# Altium schematic symbol library PultRE_8C.SchLib: 12 symbols
Pins are listed as number, name and electrical type; pins without a type are passive.

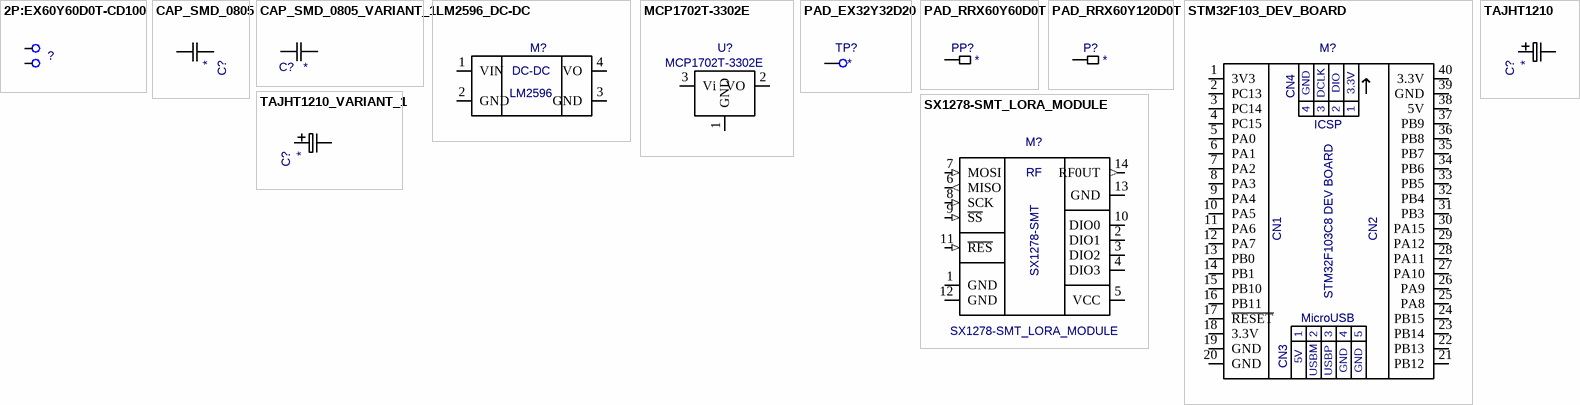
[diagram p0: symbols 2P:EX60Y60D0T-CD100 to TAJHT1210_VARIANT_1]

## 2P:EX60Y60D0T-CD100
designator ?  (value not drawn)
Value: *
footprint 2P:EX60Y60D0T-CD100
pins: 1, 2

## CAP_SMD_0805
designator C?  (value not drawn)
Value: *
footprint C0805
pins: 1 A, 2 B

## CAP_SMD_0805_VARIANT_1
designator C?, comment CAP_SMD_0805  (value not drawn)
CAP_SMD_0805_VARIANT_1; Value: *
footprint C0805
pins: 1 A, 2 B

## LM2596_DC-DC
designator M?  (value not drawn)
Value: *
footprint LM2596_DC-DC
pins: 1 VIN, 2 GND, 3 GND, 4 VO
text: DC-DC; LM2596

## MCP1702T-3302E
designator U?
Value: *
footprint SOT23A
pins: 1 GND, 2 VO, 3 Vi

## PAD_EX32Y32D20
designator TP?  (value not drawn)
Value: *
footprint PAD_EX32Y32AD20
pins: 1

## PAD_RRX60Y60D0T
designator PP?  (value not drawn)
Value: *
footprint PAD_RRX60Y60D0T
pins: 1

## PAD_RRX60Y120D0T
designator P?  (value not drawn)
Value: *
footprint PAD_RRX60Y120D0T
pins: 1

## STM32F103_DEV_BOARD
designator M?  (value not drawn)
Value: *
footprint STM32F103C8_DEV_BOARD
pins: 1 3V3, 2 PC13, 3 PC14, 4 PC15, 5 PA0, 6 PA1, 7 PA2, 8 PA3, 9 PA4, 10 PA5, 11 PA6, 12 PA7, 13 PB0, 14 PB1, 15 PB10, 16 PB11, 17 ~{RESET}, 18 3.3V, 19 GND, 20 GND, 21 PB12, 22 PB13, 23 PB14, 24 PB15, 25 PA8, 26 PA9, 27 PA10, 28 PA11, 29 PA12, 30 PA15, 31 PB3, 32 PB4, 33 PB5, 34 PB6, 35 PB7, 36 PB8, 37 PB9, 38 5V, 39 GND, 40 3.3V
text: CN4; DCLK; DIO; ICSP; STM32F103C8 DEV BOARD; CN1; CN2; MicroUSB; CN3; USBM; USBP

## SX1278-SMT_LORA_MODULE
designator M?
Value: *
footprint SX1278-SMT_MODULE
pins: 1 GND (power), 2 DIO1 (io), 3 DIO2 (io), 4 DIO3 (io), 5 VCC (power), 6 MISO (out), 7 MOSI (in), 8 SCK (in), 9 ~{SS} (in), 10 DIO0 (io), 11 ~{RES} (in), 12 GND (power), 13 GND (power), 14 RF0UT (out)
text: RF; SX1278-SMT

## TAJHT1210
designator C?  (value not drawn)
Value: *
footprint TAJHT1210
pins: 1, 2

## TAJHT1210_VARIANT_1
designator C?, comment TAJHT1210  (value not drawn)
TAJHT1210_VARIANT_1; Value: *
footprint TAJHT1210
pins: 1, 2